# EAGLE library part WING_8BIT2 (library GadgetFactory_Pub)
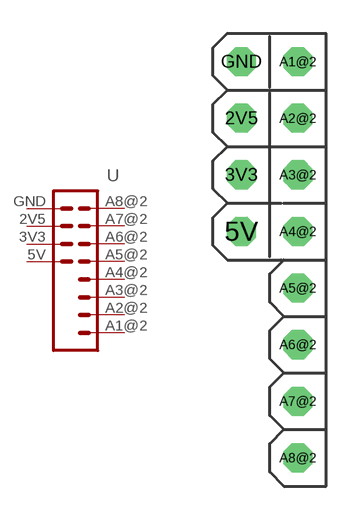
[diagram p0: symbol with the pads of COCOON_48BIT; footprint COCOON_48BIT]

Designator prefix -

## WING_8BIT2  [COCOON_48BIT]
2V5  A2  pas
3V3  A3  pas
5V  A4  pas
A1@2  A9  pas
A2@2  A10  pas
A3@2  A11  pas
A4@2  A12  pas
A5@2  A13  pas
A6@2  A14  pas
A7@2  A15  pas
A8@2  A16  pas
GND  A1  pas

## Footprint COCOON_48BIT (pad centres in mm)
drill 0.8 octagon: 2V5 -3.81,16.51; 3V3 -3.81,13.97; 5V -3.81,11.43; A1@2 -1.27,19.05; A2@2 -1.27,16.51; A3@2 -1.27,13.97; A4@2 -1.27,11.43; A5@2 -1.27,8.89; A6@2 -1.27,6.35; A7@2 -1.27,3.81; A8@2 -1.27,1.27; GND -3.81,19.05